# Altium schematic symbol library PCM4222.SchLib: 1 symbol
Pins are listed as number, name and electrical type; pins without a type are passive.

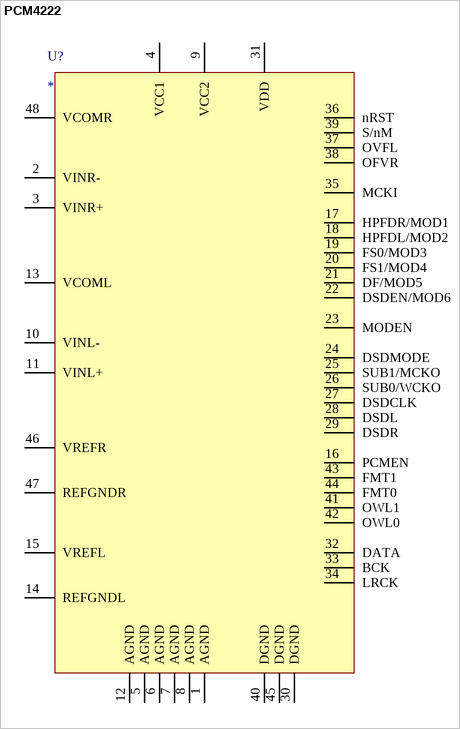
[diagram p0: symbol PCM4222]

## PCM4222
designator U?
pins: 1 AGND, 2 VINR-, 3 VINR+, 4 VCC1, 5 AGND, 6 AGND, 7 AGND, 8 AGND, 9 VCC2, 10 VINL-, 11 VINL+, 12 AGND, 13 VCOML, 14 REFGNDL, 15 VREFL, 16 PCMEN, 17 HPFDR/MOD1, 18 HPFDL/MOD2, 19 FS0/MOD3, 20 FS1/MOD4, 21 DF/MOD5, 22 DSDEN/MOD6, 23 MODEN, 24 DSDMODE, 25 SUB1/MCKO, 26 SUB0/WCKO, 27 DSDCLK, 28 DSDL, 29 DSDR, 30 DGND, 31 VDD, 32 DATA, 33 BCK, 34 LRCK, 35 MCKI, 36 nRST, 37 OVFL, 38 OFVR, 39 S/nM, 40 DGND, 41 OWL1, 42 OWL0, 43 FMT1, 44 FMT0, 45 DGND, 46 VREFR, 47 REFGNDR, 48 VCOMR